# Altium integrated library ST Peripheral Link Adapter.IntLib: 4 symbols
Pins are listed as number, name and electrical type; pins without a type are passive.

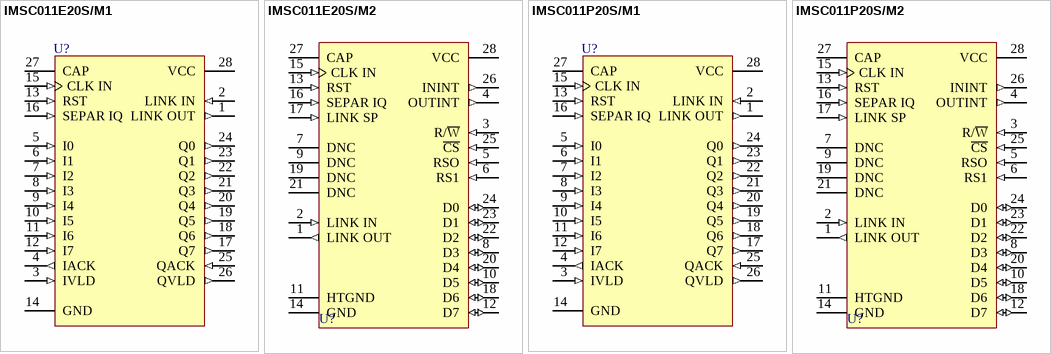
[diagram p0: symbols IMSC011E20S/M1 to IMSC011P20S/M2]

## IMSC011E20S/M1
designator U?
Link Adaptor; Note: Configuration for mode 1 displayed.; Published: 24-Aug-2001; LatestRevisionDate: 17-Jul-2002; LatestRevisionNote: Re-released for DXP Platform.; DatasheetVersion: Feb-1997; PackageVersion: Feb-1997; PackageReference: SOJ28; Publisher: Altium Limited; PackageDescription: SOJ; 28 Leads; Body Width 7.5 mm; Pitch 1.27 mm; Code_JEDEC: MO-088-AF; ComponentLink1Description: Manufacturer Link; ComponentLink1URL: http://www.st.com/
footprint SOJ28 (SOJ; 28 Leads; Body Width 7.5 mm; Pitch 1.27 mm)
pins: 1 LINK OUT (out), 2 LINK IN (in), 3 IVLD (in), 4 IACK (out), 5 I0 (in), 6 I1 (in), 7 I2 (in), 8 I3 (in), 9 I4 (in), 10 I5 (in), 11 I6 (in), 12 I7 (in), 13 RST (in), 14 GND (power), 15 CLK IN (in), 16 SEPAR IQ (in), 17 Q7 (out), 18 Q6 (out), 19 Q5 (out), 20 Q4 (out), 21 Q3 (out), 22 Q2 (out), 23 Q1 (out), 24 Q0 (out), 25 QACK (in), 26 QVLD (out), 27 CAP, 28 VCC (power)

## IMSC011E20S/M2
designator U?
Link Adaptor; Note: Configuration for mode 2 displayed.; Published: 24-Aug-2001; LatestRevisionDate: 17-Jul-2002; LatestRevisionNote: Re-released for DXP Platform.; DatasheetVersion: Feb-1997; PackageVersion: Feb-1997; PackageReference: SOJ28; Publisher: Altium Limited; PackageDescription: SOJ; 28 Leads; Body Width 7.5 mm; Pitch 1.27 mm; Code_JEDEC: MO-088-AF; ComponentLink1Description: Manufacturer Link; ComponentLink1URL: http://www.st.com/
footprint SOJ28 (SOJ; 28 Leads; Body Width 7.5 mm; Pitch 1.27 mm)
pins: 1 LINK OUT (out), 2 LINK IN (in), 3 R/~{W} (in), 4 OUTINT (out), 5 RSO (in), 6 RS1 (in), 7 DNC, 8 D3 (io), 9 DNC, 10 D5 (io), 11 HTGND, 12 D7 (io), 13 RST (in), 14 GND (power), 15 CLK IN (in), 16 SEPAR IQ (in), 17 LINK SP (in), 18 D6 (io), 19 DNC, 20 D4 (io), 21 DNC, 22 D2 (io), 23 D1 (io), 24 D0 (io), 25 ~{CS} (in), 26 ININT (out), 27 CAP, 28 VCC (power)

## IMSC011P20S/M1
designator U?
Link Adaptor; Note: Configuration for mode 1 displayed.; Published: 24-Aug-2001; LatestRevisionDate: 06-Jun-2005; LatestRevisionNote: Stylized 3D Model Added.; DatasheetVersion: Feb-1997; PackageVersion: Jan-2003; PackageReference: PDIP28; Publisher: Altium Limited; PackageDescription: DIP; 28 Leads; Row Spacing 15.24 mm; Pitch 2.54 mm; ComponentLink1Description: Manufacturer Link; ComponentLink1URL: http://www.st.com/
footprint PDIP28 (DIP; 28 Leads; Row Spacing 15.24 mm; Pitch 2.54 mm)
3D model PDIP28 (DIP; 28 Leads; Row Spacing 15.24 mm; Pitch 2.54 mm)
pins: 1 LINK OUT (out), 2 LINK IN (in), 3 IVLD (in), 4 IACK (out), 5 I0 (in), 6 I1 (in), 7 I2 (in), 8 I3 (in), 9 I4 (in), 10 I5 (in), 11 I6 (in), 12 I7 (in), 13 RST (in), 14 GND (power), 15 CLK IN (in), 16 SEPAR IQ (in), 17 Q7 (out), 18 Q6 (out), 19 Q5 (out), 20 Q4 (out), 21 Q3 (out), 22 Q2 (out), 23 Q1 (out), 24 Q0 (out), 25 QACK (in), 26 QVLD (out), 27 CAP, 28 VCC (power)

## IMSC011P20S/M2
designator U?
Link Adaptor; Note: Configuration for mode 2 displayed.; Published: 24-Aug-2001; LatestRevisionDate: 06-Jun-2005; LatestRevisionNote: Stylized 3D Model Added.; DatasheetVersion: Feb-1997; PackageVersion: Jan-2003; PackageReference: PDIP28; Publisher: Altium Limited; PackageDescription: DIP; 28 Leads; Row Spacing 15.24 mm; Pitch 2.54 mm; ComponentLink1Description: Manufacturer Link; ComponentLink1URL: http://www.st.com/
footprint PDIP28 (DIP; 28 Leads; Row Spacing 15.24 mm; Pitch 2.54 mm)
3D model PDIP28 (DIP; 28 Leads; Row Spacing 15.24 mm; Pitch 2.54 mm)
pins: 1 LINK OUT (out), 2 LINK IN (in), 3 R/~{W} (in), 4 OUTINT (out), 5 RSO (in), 6 RS1 (in), 7 DNC, 8 D3 (io), 9 DNC, 10 D5 (io), 11 HTGND, 12 D7 (io), 13 RST (in), 14 GND (power), 15 CLK IN (in), 16 SEPAR IQ (in), 17 LINK SP (in), 18 D6 (io), 19 DNC, 20 D4 (io), 21 DNC, 22 D2 (io), 23 D1 (io), 24 D0 (io), 25 ~{CS} (in), 26 ININT (out), 27 CAP, 28 VCC (power)